# Altium schematic symbol library stm32devsch.SchLib: 28 symbols (part 2 of 2)
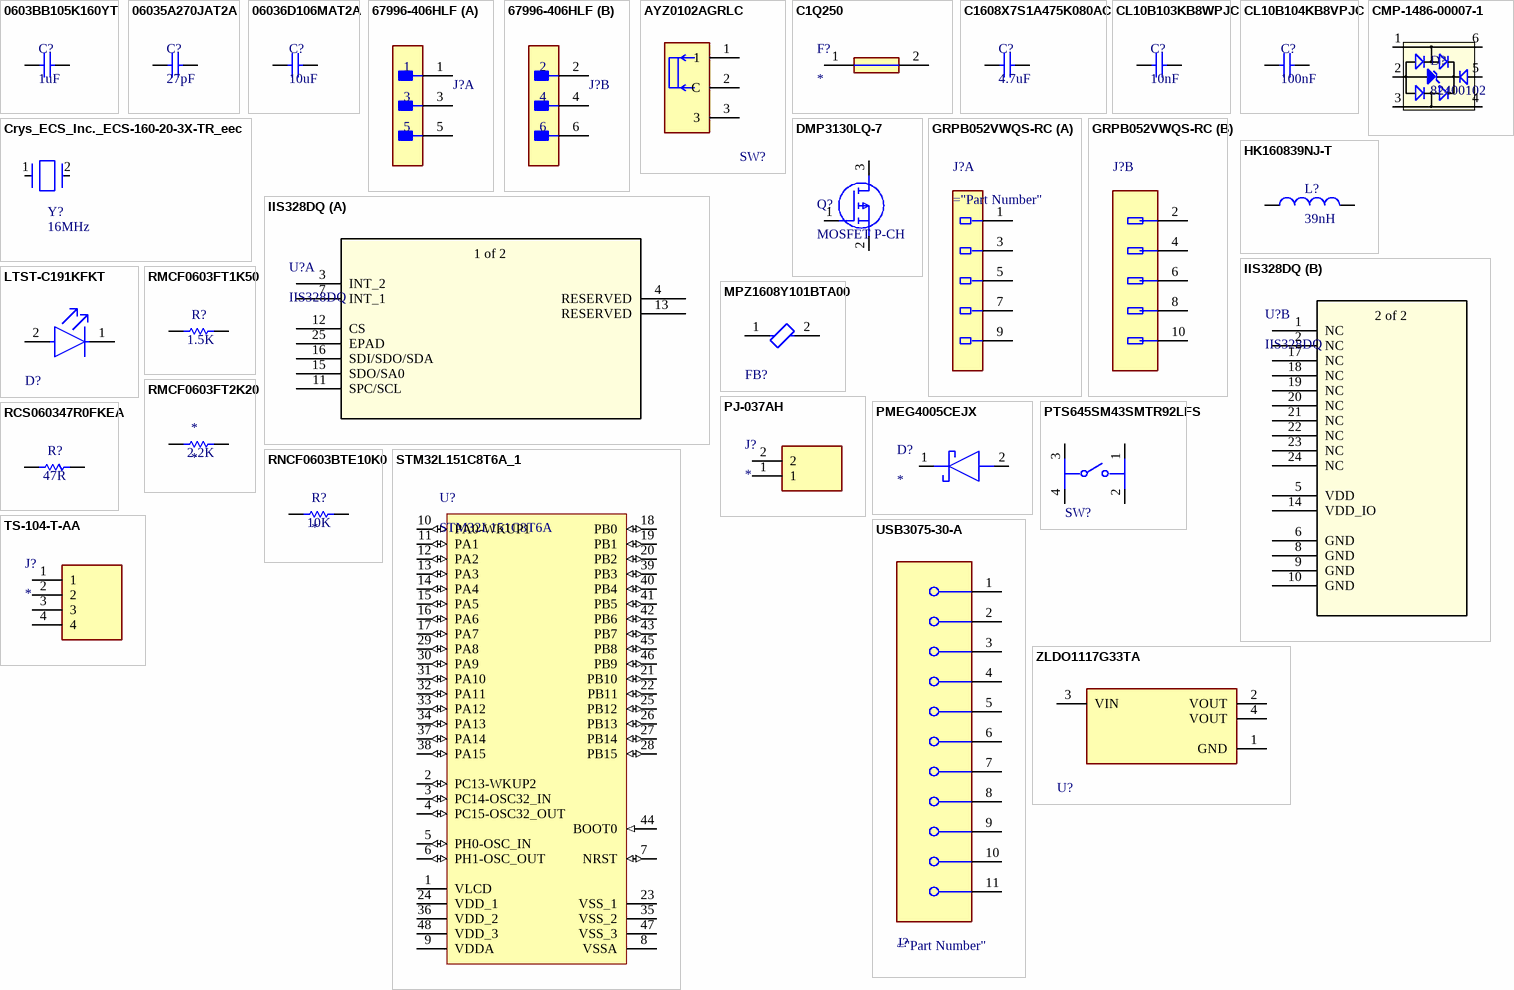
[diagram p1: symbols 0603BB105K160YT to ZLDO1117G33TA]

## ZLDO1117G33TA
designator U?  (value not drawn)
LDO Regulator Pos 3.3V 1A 4-Pin(3+Tab) SOT-223 T/R / IC REG LDO 3.3V 1A SOT223; Manufacturer: Diodes Zetex; Manufacturer Part Number: ZLDO1117G33TA; Number of Outputs: 1; Min Input Voltage: 2.7V; Max Input Voltage: 18V; Max Power Dissipation: 15W; Polarity: Positive; Quiescent Current: 10mA; Accuracy: 2%; Output Type: Fixed; Dropout Voltage: 1.11V; Min Current Limit: 1.1A; Supplier 1: Digi-Key; RoHS: Yes; Category: Voltage Regulators - Linear; Stock 1: 246729; Pricing 1: 1=0.54000, 10=0.45900, 25=0.42840, 100=0.34280, 250=0.31832, 500=0.26934 (USD); Mount: Surface Mount; Case/Package: SOT-223; Number of Pins: 3; Weight: 0.000282oz; Min Operating Temperature: -40°C; Max Operating Temperature: 125°C; Output Voltage: 3.3V; Max Output Current: 1A; Output Current: 1A; Packaging: Tape and Reel; Nominal Output Voltage: 3.3V; Package Quantity: 1000; Tolerance: 2%; Number of Regulators: 1; Reference Voltage: 3.3V; Min Output Voltage: 3.3V; Power Dissipation: 15W; Output Voltage Accuracy: 2%; Series: ZLDO1117; Length: 6.7mm; Width: 3.7mm; Height: 1.7mm; Radiation Hardening: No; REACH SVHC: No SVHC; Lead Free: Lead Free; RoHS Compliant: Yes; ComponentLink1URL: https://datasheet.ciiva.com/8078/608833-8078233.pdf?src-supplier=Element14; ComponentLink1Description: https://datasheet.ciiva.com/8078/608833-8078233.pdf?src-supplier=Element14; Supplier Part Number 1: ZLDO1117G33DICT-ND
footprint Diodes_SOT223_IPC_A
pins: 1 GND (power), 2 VOUT (power), 3 VIN (power), 4 VOUT (power)